# Altium integrated library Analog Devices Operational Amplifiers.IntLib: 2102 symbols (part 51 of 70)
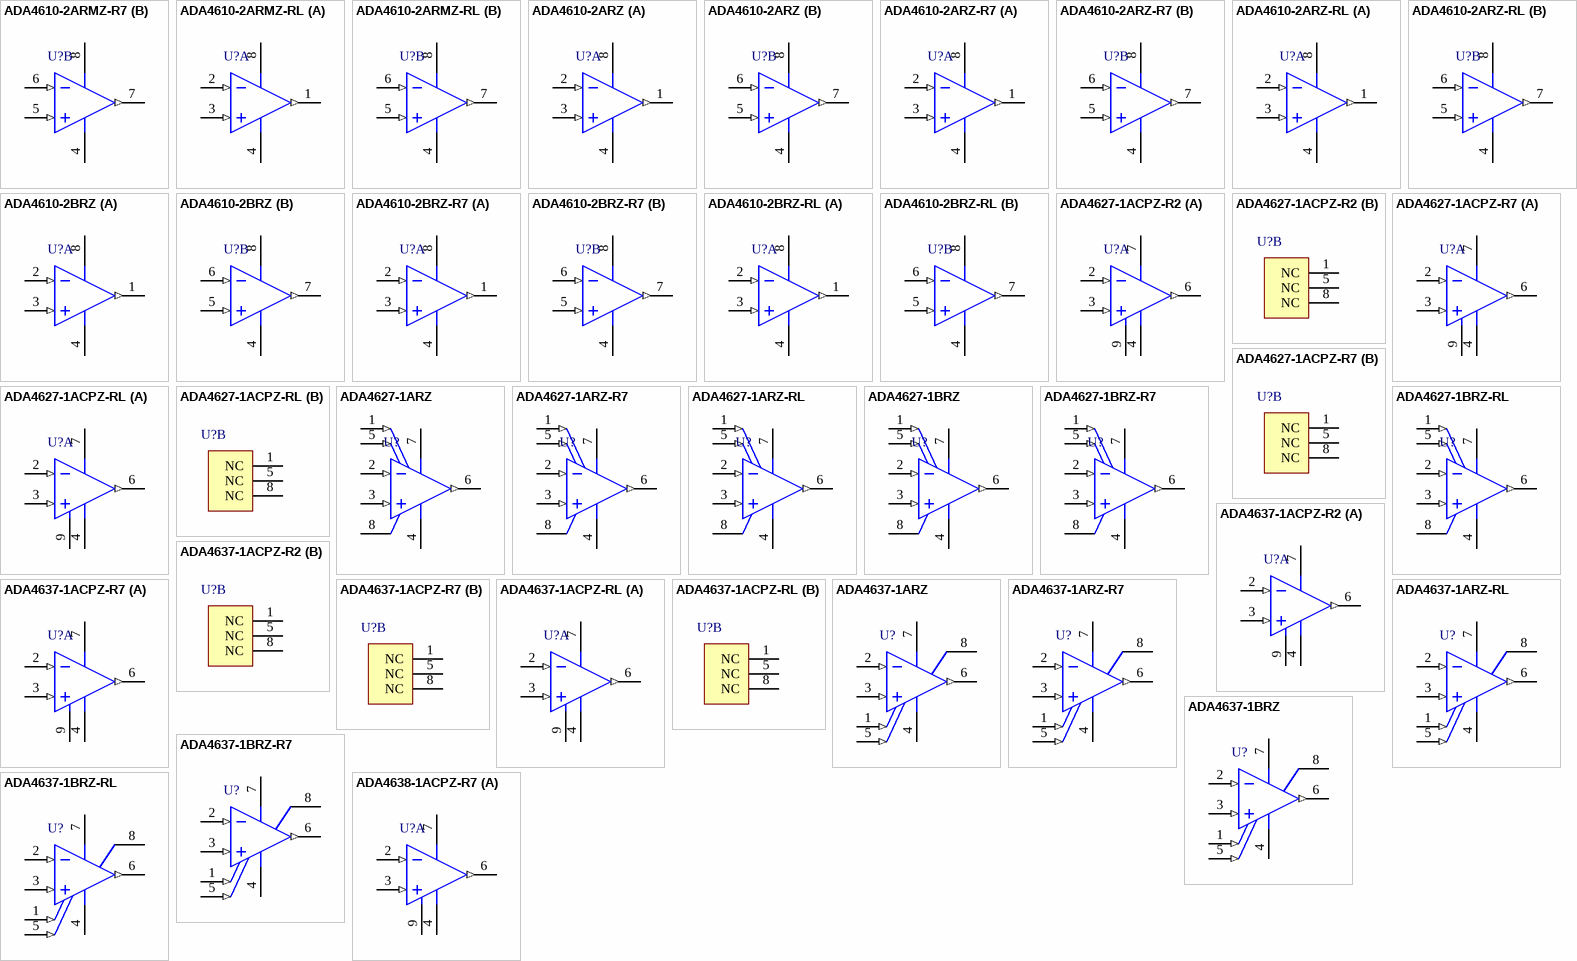
[diagram p164: symbols ADA4610-2ARMZ-R7 to ADA4638-1ACPZ-R7]

## ADA4627-1ACPZ-RL
designator U?
Single Channel Low Offset Voltage Operational Amplifier, 19 MHz BW, 40 V/us SR, Industrial, 8-pin QFN (CP-8-2), Reel; Generic Part Number: ADA4627-1; Manufacturer: Analog Devices; PartNumber: ADA4627-1ACPZ-RL; Amplifiers Per Package: 1; Input Bias Current: 1pA; Input Offset Voltage: 70uV; Iq/Amp: 7mA; Slew Rate: 40V/us; Small Signal Bandwidth: 19MHz; V Span Max: 30V; V Span Min: 10V; DatasheetVersion: Rev. D; PackageVersion: 061507-B; PackageReference: CP-8-2; PackageDescription: 8-Pin Lead Frame Chip Scale Package, Body 3 x 3 mm, Pitch 0.5 mm; Supplier 1: Digi-Key; Supplier Part Number 1: ADA4627-1ACPZ-RL-ND; Mounting Technology: Surface Mount; ComponentLink1Description: Manufacturer URL; ComponentLink1URL: http://www.analog.com/en/index.html; ComponentLink2Description: Datasheet; ComponentLink2URL: http://www.analog.com/static/imported-files/data_sheets/ADA4627-1_4637-1.pdf; ComponentLink3Description: Package Specification; ComponentLink3URL: http://www.analog.com/static/imported-files/packages/56953322593982CP_8_2.pdf; ComponentLink4Description: Reference Circuit; ComponentLink4URL: http://www.analog.com/en/all-operational-amplifiers-op-amps/operational-amplifiers-op-amps/ada4627-1/products/product.html#product-recommendations
footprint ADI-CP-8-2_N (QFN, 8-Leads, Body 3x3mm, Pitch 0.5mm, Thermal Pad 1.45X1.74mm, IPC Medium Density)
footprint ADI-CP-8-2_L (QFN, 8-Leads, Body 3x3mm, Pitch 0.5mm, Thermal Pad 1.45X1.74mm, IPC High Density)
footprint ADI-CP-8-2_M (QFN, 8-Leads, Body 3x3mm, Pitch 0.5mm, Thermal Pad 1.45X1.74mm, IPC Low Density)
part A pins: 2 -IN (in), 3 +IN (in), 4 -V (power), 6 OUT (out), 7 +V (power), 9 EP (power)
part B pins: 1 NC, 5 NC, 8 NC

## ADA4627-1ARZ
designator U?
Single Channel Low Offset Voltage Operational Amplifier, 19 MHz BW, 40 V/us SR, Industrial, 8-pin SOIC (R-8), Tube; Generic Part Number: ADA4627-1; Manufacturer: Analog Devices; PartNumber: ADA4627-1ARZ; Amplifiers Per Package: 1; Input Bias Current: 1pA; Input Offset Voltage: 70uV; Iq/Amp: 7mA; Slew Rate: 40V/us; Small Signal Bandwidth: 19MHz; V Span Max: 30V; V Span Min: 10V; DatasheetVersion: Rev. D; PackageVersion: 060506-A; PackageReference: R-8; PackageDescription: 8-Pin Standard Small Outline Package, Body 3.9 x 4.9 mm, Pitch 1.27 mm; Supplier 1: Digi-Key; Supplier Part Number 1: ADA4627-1ARZ-ND; Supplier 2: Farnell; Supplier Part Number 2: 1827378; Supplier 3: Newark; Supplier Part Number 3: 26R2398; Mounting Technology: Surface Mount; Code_JEDEC: MS-012-AA; ComponentLink1Description: Manufacturer URL; ComponentLink1URL: http://www.analog.com/en/index.html; ComponentLink2Description: Datasheet; ComponentLink2URL: http://www.analog.com/static/imported-files/data_sheets/ADA4627-1_4637-1.pdf; ComponentLink3Description: Package Specification; ComponentLink3URL: http://www.analog.com/static/imported-files/packages/PKG_PDF/SOIC_Narrow%20(R)/R_8.pdf; ComponentLink4Description: Reference Circuit; ComponentLink4URL: http://www.analog.com/en/all-operational-amplifiers-op-amps/operational-amplifiers-op-amps/ada4627-1/products/product.html#product-recommendations
footprint ADI-R-8_N (SOIC, 8-Leads, Body 4.9x3.9mm, Pitch 1.27mm, IPC Medium Density)
footprint ADI-R-8_L (SOIC, 8-Leads, Body 4.9x3.9mm, Pitch 1.27mm, IPC High Density)
footprint ADI-R-8_M (SOIC, 8-Leads, Body 4.9x3.9mm, Pitch 1.27mm, IPC Low Density)
pins: 1 NULL (in), 2 -IN (in), 3 +IN (in), 4 -V (power), 5 NULL (in), 6 OUT (out), 7 +V (power), 8 NC

## ADA4627-1ARZ-R7
designator U?
Single Channel Low Offset Voltage Operational Amplifier, 19 MHz BW, 40 V/us SR, Industrial, 8-pin SOIC (R-8), Reel; Generic Part Number: ADA4627-1; Manufacturer: Analog Devices; PartNumber: ADA4627-1ARZ-R7; Amplifiers Per Package: 1; Input Bias Current: 1pA; Input Offset Voltage: 70uV; Iq/Amp: 7mA; Slew Rate: 40V/us; Small Signal Bandwidth: 19MHz; V Span Max: 30V; V Span Min: 10V; DatasheetVersion: Rev. D; PackageVersion: 060506-A; PackageReference: R-8; PackageDescription: 8-Pin Standard Small Outline Package, Body 3.9 x 4.9 mm, Pitch 1.27 mm; Supplier 1: Digi-Key; Supplier Part Number 1: ADA4627-1ARZ-R7TR-ND; Supplier 2: Digi-Key; Supplier Part Number 2: ADA4627-1ARZ-R7CT-ND; Supplier 3: Digi-Key; Supplier Part Number 3: ADA4627-1ARZ-R7DKR-ND; Supplier 4: Newark; Supplier Part Number 4: 26R2400; Mounting Technology: Surface Mount; Code_JEDEC: MS-012-AA; ComponentLink1Description: Manufacturer URL; ComponentLink1URL: http://www.analog.com/en/index.html; ComponentLink2Description: Datasheet; ComponentLink2URL: http://www.analog.com/static/imported-files/data_sheets/ADA4627-1_4637-1.pdf; ComponentLink3Description: Package Specification; ComponentLink3URL: http://www.analog.com/static/imported-files/packages/PKG_PDF/SOIC_Narrow%20(R)/R_8.pdf; ComponentLink4Description: Reference Circuit; ComponentLink4URL: http://www.analog.com/en/all-operational-amplifiers-op-amps/operational-amplifiers-op-amps/ada4627-1/products/product.html#product-recommendations
footprint ADI-R-8_N (SOIC, 8-Leads, Body 4.9x3.9mm, Pitch 1.27mm, IPC Medium Density)
footprint ADI-R-8_L (SOIC, 8-Leads, Body 4.9x3.9mm, Pitch 1.27mm, IPC High Density)
footprint ADI-R-8_M (SOIC, 8-Leads, Body 4.9x3.9mm, Pitch 1.27mm, IPC Low Density)
pins: 1 NULL (in), 2 -IN (in), 3 +IN (in), 4 -V (power), 5 NULL (in), 6 OUT (out), 7 +V (power), 8 NC

## ADA4627-1ARZ-RL
designator U?
Single Channel Low Offset Voltage Operational Amplifier, 19 MHz BW, 40 V/us SR, Industrial, 8-pin SOIC (R-8), Reel; Generic Part Number: ADA4627-1; Manufacturer: Analog Devices; PartNumber: ADA4627-1ARZ-RL; Amplifiers Per Package: 1; Input Bias Current: 1pA; Input Offset Voltage: 70uV; Iq/Amp: 7mA; Slew Rate: 40V/us; Small Signal Bandwidth: 19MHz; V Span Max: 30V; V Span Min: 10V; DatasheetVersion: Rev. D; PackageVersion: 060506-A; PackageReference: R-8; PackageDescription: 8-Pin Standard Small Outline Package, Body 3.9 x 4.9 mm, Pitch 1.27 mm; Supplier 1: Digi-Key; Supplier Part Number 1: ADA4627-1ARZ-RL-ND; Supplier 2: Newark; Supplier Part Number 2: 26R2399; Mounting Technology: Surface Mount; Code_JEDEC: MS-012-AA; ComponentLink1Description: Manufacturer URL; ComponentLink1URL: http://www.analog.com/en/index.html; ComponentLink2Description: Datasheet; ComponentLink2URL: http://www.analog.com/static/imported-files/data_sheets/ADA4627-1_4637-1.pdf; ComponentLink3Description: Package Specification; ComponentLink3URL: http://www.analog.com/static/imported-files/packages/PKG_PDF/SOIC_Narrow%20(R)/R_8.pdf; ComponentLink4Description: Reference Circuit; ComponentLink4URL: http://www.analog.com/en/all-operational-amplifiers-op-amps/operational-amplifiers-op-amps/ada4627-1/products/product.html#product-recommendations
footprint ADI-R-8_N (SOIC, 8-Leads, Body 4.9x3.9mm, Pitch 1.27mm, IPC Medium Density)
footprint ADI-R-8_L (SOIC, 8-Leads, Body 4.9x3.9mm, Pitch 1.27mm, IPC High Density)
footprint ADI-R-8_M (SOIC, 8-Leads, Body 4.9x3.9mm, Pitch 1.27mm, IPC Low Density)
pins: 1 NULL (in), 2 -IN (in), 3 +IN (in), 4 -V (power), 5 NULL (in), 6 OUT (out), 7 +V (power), 8 NC

## ADA4627-1BRZ
designator U?
Single Channel Low Offset Voltage Operational Amplifier, 19 MHz BW, 40 V/us SR, Industrial, 8-pin SOIC (R-8), Tube; Generic Part Number: ADA4627-1; Manufacturer: Analog Devices; PartNumber: ADA4627-1BRZ; Amplifiers Per Package: 1; Input Bias Current: 1pA; Input Offset Voltage: 70uV; Iq/Amp: 7mA; Slew Rate: 40V/us; Small Signal Bandwidth: 19MHz; V Span Max: 30V; V Span Min: 10V; DatasheetVersion: Rev. D; PackageVersion: 060506-A; PackageReference: R-8; PackageDescription: 8-Pin Standard Small Outline Package, Body 3.9 x 4.9 mm, Pitch 1.27 mm; Supplier 1: Digi-Key; Supplier Part Number 1: ADA4627-1BRZ-ND; Supplier 2: Farnell; Supplier Part Number 2: 2067785; Supplier 3: Newark; Supplier Part Number 3: 73T8137; Supplier 4: Newark; Supplier Part Number 4: 26R2401; Mounting Technology: Surface Mount; Code_JEDEC: MS-012-AA; ComponentLink1Description: Manufacturer URL; ComponentLink1URL: http://www.analog.com/en/index.html; ComponentLink2Description: Datasheet; ComponentLink2URL: http://www.analog.com/static/imported-files/data_sheets/ADA4627-1_4637-1.pdf; ComponentLink3Description: Package Specification; ComponentLink3URL: http://www.analog.com/static/imported-files/packages/PKG_PDF/SOIC_Narrow%20(R)/R_8.pdf; ComponentLink4Description: Reference Circuit; ComponentLink4URL: http://www.analog.com/en/all-operational-amplifiers-op-amps/operational-amplifiers-op-amps/ada4627-1/products/product.html#product-recommendations
footprint ADI-R-8_N (SOIC, 8-Leads, Body 4.9x3.9mm, Pitch 1.27mm, IPC Medium Density)
footprint ADI-R-8_L (SOIC, 8-Leads, Body 4.9x3.9mm, Pitch 1.27mm, IPC High Density)
footprint ADI-R-8_M (SOIC, 8-Leads, Body 4.9x3.9mm, Pitch 1.27mm, IPC Low Density)
pins: 1 NULL (in), 2 -IN (in), 3 +IN (in), 4 -V (power), 5 NULL (in), 6 OUT (out), 7 +V (power), 8 NC

## ADA4627-1BRZ-R7
designator U?
Single Channel Low Offset Voltage Operational Amplifier, 19 MHz BW, 40 V/us SR, Industrial, 8-pin SOIC (R-8), Reel; Generic Part Number: ADA4627-1; Manufacturer: Analog Devices; PartNumber: ADA4627-1BRZ-R7; Amplifiers Per Package: 1; Input Bias Current: 1pA; Input Offset Voltage: 70uV; Iq/Amp: 7mA; Slew Rate: 40V/us; Small Signal Bandwidth: 19MHz; V Span Max: 30V; V Span Min: 10V; DatasheetVersion: Rev. D; PackageVersion: 060506-A; PackageReference: R-8; PackageDescription: 8-Pin Standard Small Outline Package, Body 3.9 x 4.9 mm, Pitch 1.27 mm; Supplier 1: Digi-Key; Supplier Part Number 1: ADA4627-1BRZ-R7-ND; Supplier 2: Newark; Supplier Part Number 2: 26R2403; Mounting Technology: Surface Mount; Code_JEDEC: MS-012-AA; ComponentLink1Description: Manufacturer URL; ComponentLink1URL: http://www.analog.com/en/index.html; ComponentLink2Description: Datasheet; ComponentLink2URL: http://www.analog.com/static/imported-files/data_sheets/ADA4627-1_4637-1.pdf; ComponentLink3Description: Package Specification; ComponentLink3URL: http://www.analog.com/static/imported-files/packages/PKG_PDF/SOIC_Narrow%20(R)/R_8.pdf; ComponentLink4Description: Reference Circuit; ComponentLink4URL: http://www.analog.com/en/all-operational-amplifiers-op-amps/operational-amplifiers-op-amps/ada4627-1/products/product.html#product-recommendations
footprint ADI-R-8_N (SOIC, 8-Leads, Body 4.9x3.9mm, Pitch 1.27mm, IPC Medium Density)
footprint ADI-R-8_L (SOIC, 8-Leads, Body 4.9x3.9mm, Pitch 1.27mm, IPC High Density)
footprint ADI-R-8_M (SOIC, 8-Leads, Body 4.9x3.9mm, Pitch 1.27mm, IPC Low Density)
pins: 1 NULL (in), 2 -IN (in), 3 +IN (in), 4 -V (power), 5 NULL (in), 6 OUT (out), 7 +V (power), 8 NC

## ADA4627-1BRZ-RL
designator U?
Single Channel Low Offset Voltage Operational Amplifier, 19 MHz BW, 40 V/us SR, Industrial, 8-pin SOIC (R-8), Reel; Generic Part Number: ADA4627-1; Manufacturer: Analog Devices; PartNumber: ADA4627-1BRZ-RL; Amplifiers Per Package: 1; Input Bias Current: 1pA; Input Offset Voltage: 70uV; Iq/Amp: 7mA; Slew Rate: 40V/us; Small Signal Bandwidth: 19MHz; V Span Max: 30V; V Span Min: 10V; DatasheetVersion: Rev. D; PackageVersion: 060506-A; PackageReference: R-8; PackageDescription: 8-Pin Standard Small Outline Package, Body 3.9 x 4.9 mm, Pitch 1.27 mm; Supplier 1: Digi-Key; Supplier Part Number 1: ADA4627-1BRZ-RL-ND; Supplier 2: Newark; Supplier Part Number 2: 26R2402; Mounting Technology: Surface Mount; Code_JEDEC: MS-012-AA; ComponentLink1Description: Manufacturer URL; ComponentLink1URL: http://www.analog.com/en/index.html; ComponentLink2Description: Datasheet; ComponentLink2URL: http://www.analog.com/static/imported-files/data_sheets/ADA4627-1_4637-1.pdf; ComponentLink3Description: Package Specification; ComponentLink3URL: http://www.analog.com/static/imported-files/packages/PKG_PDF/SOIC_Narrow%20(R)/R_8.pdf; ComponentLink4Description: Reference Circuit; ComponentLink4URL: http://www.analog.com/en/all-operational-amplifiers-op-amps/operational-amplifiers-op-amps/ada4627-1/products/product.html#product-recommendations
footprint ADI-R-8_N (SOIC, 8-Leads, Body 4.9x3.9mm, Pitch 1.27mm, IPC Medium Density)
footprint ADI-R-8_L (SOIC, 8-Leads, Body 4.9x3.9mm, Pitch 1.27mm, IPC High Density)
footprint ADI-R-8_M (SOIC, 8-Leads, Body 4.9x3.9mm, Pitch 1.27mm, IPC Low Density)
pins: 1 NULL (in), 2 -IN (in), 3 +IN (in), 4 -V (power), 5 NULL (in), 6 OUT (out), 7 +V (power), 8 NC

## ADA4637-1ACPZ-R2
designator U?
Single Channel Low Offset Voltage Operational Amplifier, 79 MHz BW, 170 V/us SR, Industrial, 8-pin QFN (CP-8-2), Reel; Generic Part Number: ADA4637-1; Manufacturer: Analog Devices; PartNumber: ADA4637-1ACPZ-R2; Input Bias Current: 1pA; Input Offset Voltage: 120uV; DatasheetVersion: Rev. D; PackageVersion: 061507-B; PackageReference: CP-8-2; PackageDescription: 8-Pin Lead Frame Chip Scale Package, Body 3 x 3 mm, Pitch 0.5 mm; Supplier 1: Digi-Key; Supplier Part Number 1: ADA4637-1ACPZ-R2TR-ND; Supplier 2: Digi-Key; Supplier Part Number 2: ADA4637-1ACPZ-R2CT-ND; Supplier 3: Digi-Key; Supplier Part Number 3: ADA4637-1ACPZ-R2DKR-ND; Supplier 4: Newark; Supplier Part Number 4: 18T1945; Packing: Reel; Slew Rate: 170V/us; Mounting Technology: Surface Mount; ComponentLink1Description: Manufacturer URL; ComponentLink1URL: http://www.analog.com/en/index.html; ComponentLink2Description: Datasheet; ComponentLink2URL: http://www.analog.com/static/imported-files/data_sheets/ADA4627-1_4637-1.pdf; ComponentLink3Description: Package Specification; ComponentLink3URL: http://www.analog.com/static/imported-files/packages/56953322593982CP_8_2.pdf
footprint ADI-CP-8-2_N (QFN, 8-Leads, Body 3x3mm, Pitch 0.5mm, Thermal Pad 1.45X1.74mm, IPC Medium Density)
footprint ADI-CP-8-2_L (QFN, 8-Leads, Body 3x3mm, Pitch 0.5mm, Thermal Pad 1.45X1.74mm, IPC High Density)
footprint ADI-CP-8-2_M (QFN, 8-Leads, Body 3x3mm, Pitch 0.5mm, Thermal Pad 1.45X1.74mm, IPC Low Density)
part A pins: 2 -IN (in), 3 +IN (in), 4 -V (power), 6 OUT (out), 7 +V (power), 9 EP (power)
part B pins: 1 NC, 5 NC, 8 NC

## ADA4637-1ACPZ-R7
designator U?
Single Channel Low Offset Voltage Operational Amplifier, 79 MHz BW, 170 V/us SR, Industrial, 8-pin QFN (CP-8-2), Reel; Generic Part Number: ADA4637-1; Manufacturer: Analog Devices; PartNumber: ADA4637-1ACPZ-R7; Input Bias Current: 1pA; Input Offset Voltage: 120uV; DatasheetVersion: Rev. D; PackageVersion: 061507-B; PackageReference: CP-8-2; PackageDescription: 8-Pin Lead Frame Chip Scale Package, Body 3 x 3 mm, Pitch 0.5 mm; Supplier 1: Digi-Key; Supplier Part Number 1: ADA4637-1ACPZ-R7-ND; Packing: Reel; Slew Rate: 170V/us; Mounting Technology: Surface Mount; ComponentLink1Description: Manufacturer URL; ComponentLink1URL: http://www.analog.com/en/index.html; ComponentLink2Description: Datasheet; ComponentLink2URL: http://www.analog.com/static/imported-files/data_sheets/ADA4627-1_4637-1.pdf; ComponentLink3Description: Package Specification; ComponentLink3URL: http://www.analog.com/static/imported-files/packages/56953322593982CP_8_2.pdf
footprint ADI-CP-8-2_N (QFN, 8-Leads, Body 3x3mm, Pitch 0.5mm, Thermal Pad 1.45X1.74mm, IPC Medium Density)
footprint ADI-CP-8-2_L (QFN, 8-Leads, Body 3x3mm, Pitch 0.5mm, Thermal Pad 1.45X1.74mm, IPC High Density)
footprint ADI-CP-8-2_M (QFN, 8-Leads, Body 3x3mm, Pitch 0.5mm, Thermal Pad 1.45X1.74mm, IPC Low Density)
part A pins: 2 -IN (in), 3 +IN (in), 4 -V (power), 6 OUT (out), 7 +V (power), 9 EP (power)
part B pins: 1 NC, 5 NC, 8 NC

## ADA4637-1ACPZ-RL
designator U?
Single Channel Low Offset Voltage Operational Amplifier, 79 MHz BW, 170 V/us SR, Industrial, 8-pin QFN (CP-8-2), Reel; Generic Part Number: ADA4637-1; Manufacturer: Analog Devices; PartNumber: ADA4637-1ACPZ-RL; Input Bias Current: 1pA; Input Offset Voltage: 120uV; DatasheetVersion: Rev. D; PackageVersion: 061507-B; PackageReference: CP-8-2; PackageDescription: 8-Pin Lead Frame Chip Scale Package, Body 3 x 3 mm, Pitch 0.5 mm; Supplier 1: Digi-Key; Supplier Part Number 1: ADA4637-1ACPZ-RL-ND; Packing: Reel; Slew Rate: 170V/us; Mounting Technology: Surface Mount; ComponentLink1Description: Manufacturer URL; ComponentLink1URL: http://www.analog.com/en/index.html; ComponentLink2Description: Datasheet; ComponentLink2URL: http://www.analog.com/static/imported-files/data_sheets/ADA4627-1_4637-1.pdf; ComponentLink3Description: Package Specification; ComponentLink3URL: http://www.analog.com/static/imported-files/packages/56953322593982CP_8_2.pdf
footprint ADI-CP-8-2_N (QFN, 8-Leads, Body 3x3mm, Pitch 0.5mm, Thermal Pad 1.45X1.74mm, IPC Medium Density)
footprint ADI-CP-8-2_L (QFN, 8-Leads, Body 3x3mm, Pitch 0.5mm, Thermal Pad 1.45X1.74mm, IPC High Density)
footprint ADI-CP-8-2_M (QFN, 8-Leads, Body 3x3mm, Pitch 0.5mm, Thermal Pad 1.45X1.74mm, IPC Low Density)
part A pins: 2 -IN (in), 3 +IN (in), 4 -V (power), 6 OUT (out), 7 +V (power), 9 EP (power)
part B pins: 1 NC, 5 NC, 8 NC

## ADA4637-1ARZ
designator U?
Single Channel Low Offset Voltage Operational Amplifier, 79 MHz BW, 170 V/us SR, Industrial, 8-pin SOIC (R-8), Tube; Generic Part Number: ADA4637-1; Manufacturer: Analog Devices; PartNumber: ADA4637-1ARZ; Input Bias Current: 1pA; Input Offset Voltage: 120uV; DatasheetVersion: Rev. D; PackageVersion: 060506-A; PackageReference: R-8; PackageDescription: 8-Pin Standard Small Outline Package, Body 3.9 x 4.9 mm, Pitch 1.27 mm; Supplier 1: Digi-Key; Supplier Part Number 1: ADA4637-1ARZ-ND; Supplier 2: Farnell; Supplier Part Number 2: 2067786; Supplier 3: Newark; Supplier Part Number 3: 73T8138; Supplier 4: Newark; Supplier Part Number 4: 85R6298; Packing: Tube; Slew Rate: 170V/us; Mounting Technology: Surface Mount; Code_JEDEC: MS-012-AA; ComponentLink1Description: Manufacturer URL; ComponentLink1URL: http://www.analog.com/en/index.html; ComponentLink2Description: Datasheet; ComponentLink2URL: http://www.analog.com/static/imported-files/data_sheets/ADA4627-1_4637-1.pdf; ComponentLink3Description: Package Specification; ComponentLink3URL: http://www.analog.com/static/imported-files/packages/PKG_PDF/SOIC_Narrow%20(R)/R_8.pdf
footprint ADI-R-8_N (SOIC, 8-Leads, Body 4.9x3.9mm, Pitch 1.27mm, IPC Medium Density)
footprint ADI-R-8_L (SOIC, 8-Leads, Body 4.9x3.9mm, Pitch 1.27mm, IPC High Density)
footprint ADI-R-8_M (SOIC, 8-Leads, Body 4.9x3.9mm, Pitch 1.27mm, IPC Low Density)
pins: 1 NULL (in), 2 -IN (in), 3 +IN (in), 4 -V (power), 5 NULL (in), 6 OUT (out), 7 +V (power), 8 NC

## ADA4637-1ARZ-R7
designator U?
Single Channel Low Offset Voltage Operational Amplifier, 79 MHz BW, 170 V/us SR, Industrial, 8-pin SOIC (R-8), Reel; Generic Part Number: ADA4637-1; Manufacturer: Analog Devices; PartNumber: ADA4637-1ARZ-R7; Input Bias Current: 1pA; Input Offset Voltage: 120uV; DatasheetVersion: Rev. D; PackageVersion: 060506-A; PackageReference: R-8; PackageDescription: 8-Pin Standard Small Outline Package, Body 3.9 x 4.9 mm, Pitch 1.27 mm; Supplier 1: Digi-Key; Supplier Part Number 1: ADA4637-1ARZ-R7-ND; Supplier 2: Newark; Supplier Part Number 2: 85R6300; Packing: Reel; Slew Rate: 170V/us; Mounting Technology: Surface Mount; Code_JEDEC: MS-012-AA; ComponentLink1Description: Manufacturer URL; ComponentLink1URL: http://www.analog.com/en/index.html; ComponentLink2Description: Datasheet; ComponentLink2URL: http://www.analog.com/static/imported-files/data_sheets/ADA4627-1_4637-1.pdf; ComponentLink3Description: Package Specification; ComponentLink3URL: http://www.analog.com/static/imported-files/packages/PKG_PDF/SOIC_Narrow%20(R)/R_8.pdf
footprint ADI-R-8_N (SOIC, 8-Leads, Body 4.9x3.9mm, Pitch 1.27mm, IPC Medium Density)
footprint ADI-R-8_L (SOIC, 8-Leads, Body 4.9x3.9mm, Pitch 1.27mm, IPC High Density)
footprint ADI-R-8_M (SOIC, 8-Leads, Body 4.9x3.9mm, Pitch 1.27mm, IPC Low Density)
pins: 1 NULL (in), 2 -IN (in), 3 +IN (in), 4 -V (power), 5 NULL (in), 6 OUT (out), 7 +V (power), 8 NC

## ADA4637-1ARZ-RL
designator U?
Single Channel Low Offset Voltage Operational Amplifier, 79 MHz BW, 170 V/us SR, Industrial, 8-pin SOIC (R-8), Reel; Generic Part Number: ADA4637-1; Manufacturer: Analog Devices; PartNumber: ADA4637-1ARZ-RL; Input Bias Current: 1pA; Input Offset Voltage: 120uV; DatasheetVersion: Rev. D; PackageVersion: 060506-A; PackageReference: R-8; PackageDescription: 8-Pin Standard Small Outline Package, Body 3.9 x 4.9 mm, Pitch 1.27 mm; Supplier 1: Digi-Key; Supplier Part Number 1: ADA4637-1ARZ-RL-ND; Supplier 2: Newark; Supplier Part Number 2: 85R6299; Packing: Reel; Slew Rate: 170V/us; Mounting Technology: Surface Mount; Code_JEDEC: MS-012-AA; ComponentLink1Description: Manufacturer URL; ComponentLink1URL: http://www.analog.com/en/index.html; ComponentLink2Description: Datasheet; ComponentLink2URL: http://www.analog.com/static/imported-files/data_sheets/ADA4627-1_4637-1.pdf; ComponentLink3Description: Package Specification; ComponentLink3URL: http://www.analog.com/static/imported-files/packages/PKG_PDF/SOIC_Narrow%20(R)/R_8.pdf
footprint ADI-R-8_N (SOIC, 8-Leads, Body 4.9x3.9mm, Pitch 1.27mm, IPC Medium Density)
footprint ADI-R-8_L (SOIC, 8-Leads, Body 4.9x3.9mm, Pitch 1.27mm, IPC High Density)
footprint ADI-R-8_M (SOIC, 8-Leads, Body 4.9x3.9mm, Pitch 1.27mm, IPC Low Density)
pins: 1 NULL (in), 2 -IN (in), 3 +IN (in), 4 -V (power), 5 NULL (in), 6 OUT (out), 7 +V (power), 8 NC

## ADA4637-1BRZ
designator U?
Single Channel Low Offset Voltage Operational Amplifier, 79 MHz BW, 170 V/us SR, Industrial, 8-pin SOIC (R-8), Tube; Generic Part Number: ADA4637-1; Manufacturer: Analog Devices; PartNumber: ADA4637-1BRZ; Input Bias Current: 1pA; Input Offset Voltage: 70uV; DatasheetVersion: Rev. D; PackageVersion: 060506-A; PackageReference: R-8; PackageDescription: 8-Pin Standard Small Outline Package, Body 3.9 x 4.9 mm, Pitch 1.27 mm; Supplier 1: Digi-Key; Supplier Part Number 1: ADA4637-1BRZ-ND; Supplier 2: Newark; Supplier Part Number 2: 85R6301; Packing: Tube; Slew Rate: 170V/us; Mounting Technology: Surface Mount; Code_JEDEC: MS-012-AA; ComponentLink1Description: Manufacturer URL; ComponentLink1URL: http://www.analog.com/en/index.html; ComponentLink2Description: Datasheet; ComponentLink2URL: http://www.analog.com/static/imported-files/data_sheets/ADA4627-1_4637-1.pdf; ComponentLink3Description: Package Specification; ComponentLink3URL: http://www.analog.com/static/imported-files/packages/PKG_PDF/SOIC_Narrow%20(R)/R_8.pdf
footprint ADI-R-8_N (SOIC, 8-Leads, Body 4.9x3.9mm, Pitch 1.27mm, IPC Medium Density)
footprint ADI-R-8_L (SOIC, 8-Leads, Body 4.9x3.9mm, Pitch 1.27mm, IPC High Density)
footprint ADI-R-8_M (SOIC, 8-Leads, Body 4.9x3.9mm, Pitch 1.27mm, IPC Low Density)
pins: 1 NULL (in), 2 -IN (in), 3 +IN (in), 4 -V (power), 5 NULL (in), 6 OUT (out), 7 +V (power), 8 NC

## ADA4637-1BRZ-R7
designator U?
Single Channel Low Offset Voltage Operational Amplifier, 79 MHz BW, 170 V/us SR, Industrial, 8-pin SOIC (R-8), Reel; Generic Part Number: ADA4637-1; Manufacturer: Analog Devices; PartNumber: ADA4637-1BRZ-R7; Input Bias Current: 1pA; Input Offset Voltage: 70uV; DatasheetVersion: Rev. D; PackageVersion: 060506-A; PackageReference: R-8; PackageDescription: 8-Pin Standard Small Outline Package, Body 3.9 x 4.9 mm, Pitch 1.27 mm; Supplier 1: Digi-Key; Supplier Part Number 1: ADA4637-1BRZ-R7-ND; Supplier 2: Newark; Supplier Part Number 2: 85R6303; Packing: Reel; Slew Rate: 170V/us; Mounting Technology: Surface Mount; Code_JEDEC: MS-012-AA; ComponentLink1Description: Manufacturer URL; ComponentLink1URL: http://www.analog.com/en/index.html; ComponentLink2Description: Datasheet; ComponentLink2URL: http://www.analog.com/static/imported-files/data_sheets/ADA4627-1_4637-1.pdf; ComponentLink3Description: Package Specification; ComponentLink3URL: http://www.analog.com/static/imported-files/packages/PKG_PDF/SOIC_Narrow%20(R)/R_8.pdf
footprint ADI-R-8_N (SOIC, 8-Leads, Body 4.9x3.9mm, Pitch 1.27mm, IPC Medium Density)
footprint ADI-R-8_L (SOIC, 8-Leads, Body 4.9x3.9mm, Pitch 1.27mm, IPC High Density)
footprint ADI-R-8_M (SOIC, 8-Leads, Body 4.9x3.9mm, Pitch 1.27mm, IPC Low Density)
pins: 1 NULL (in), 2 -IN (in), 3 +IN (in), 4 -V (power), 5 NULL (in), 6 OUT (out), 7 +V (power), 8 NC

## ADA4637-1BRZ-RL
designator U?
Single Channel Low Offset Voltage Operational Amplifier, 79 MHz BW, 170 V/us SR, Industrial, 8-pin SOIC (R-8), Reel; Generic Part Number: ADA4637-1; Manufacturer: Analog Devices; PartNumber: ADA4637-1BRZ-RL; Input Bias Current: 1pA; Input Offset Voltage: 70uV; DatasheetVersion: Rev. D; PackageVersion: 060506-A; PackageReference: R-8; PackageDescription: 8-Pin Standard Small Outline Package, Body 3.9 x 4.9 mm, Pitch 1.27 mm; Supplier 1: Digi-Key; Supplier Part Number 1: ADA4637-1BRZ-RL-ND; Supplier 2: Newark; Supplier Part Number 2: 85R6302; Packing: Reel; Slew Rate: 170V/us; Mounting Technology: Surface Mount; Code_JEDEC: MS-012-AA; ComponentLink1Description: Manufacturer URL; ComponentLink1URL: http://www.analog.com/en/index.html; ComponentLink2Description: Datasheet; ComponentLink2URL: http://www.analog.com/static/imported-files/data_sheets/ADA4627-1_4637-1.pdf; ComponentLink3Description: Package Specification; ComponentLink3URL: http://www.analog.com/static/imported-files/packages/PKG_PDF/SOIC_Narrow%20(R)/R_8.pdf
footprint ADI-R-8_N (SOIC, 8-Leads, Body 4.9x3.9mm, Pitch 1.27mm, IPC Medium Density)
footprint ADI-R-8_L (SOIC, 8-Leads, Body 4.9x3.9mm, Pitch 1.27mm, IPC High Density)
footprint ADI-R-8_M (SOIC, 8-Leads, Body 4.9x3.9mm, Pitch 1.27mm, IPC Low Density)
pins: 1 NULL (in), 2 -IN (in), 3 +IN (in), 4 -V (power), 5 NULL (in), 6 OUT (out), 7 +V (power), 8 NC

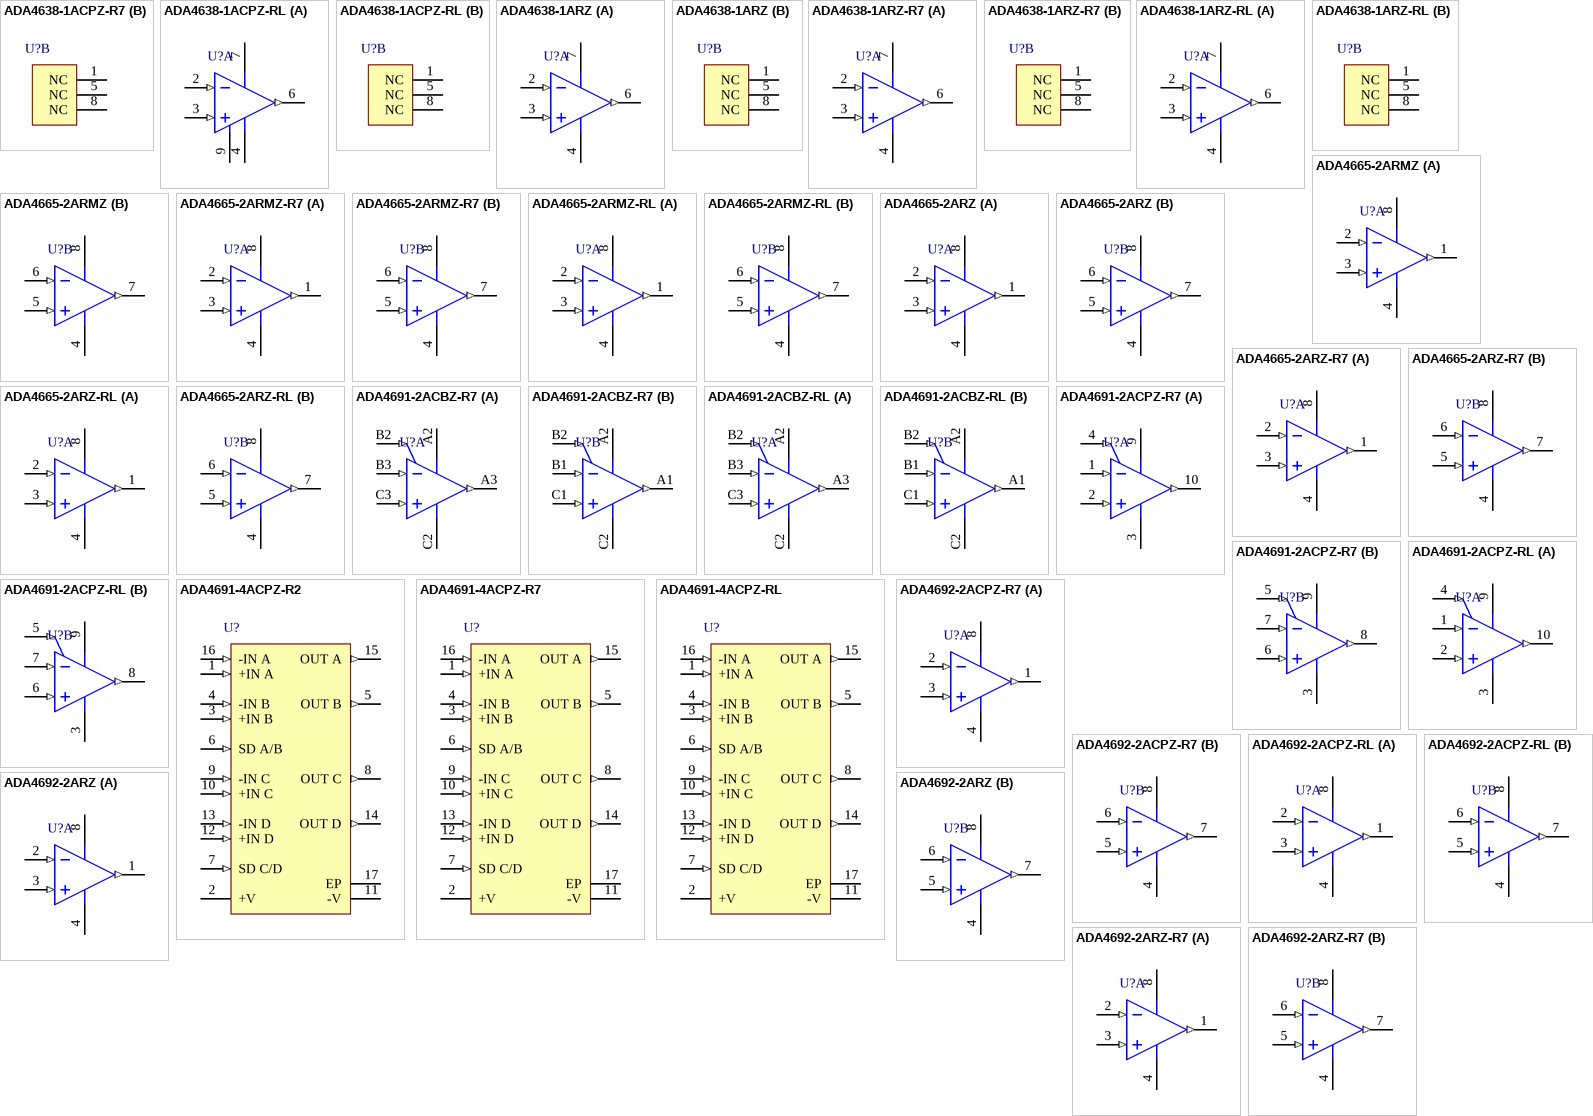
[diagram p81: symbols ADA4638-1ACPZ-R7 to ADA4692-2ARZ-R7]

## ADA4638-1ACPZ-R7
designator U?
Single Channel Low Supply Current Operational Amplifier, 2.5 MHz BW, 1.5 V/us SR, Industrial, 8-pin SON (CP-8-11), Reel; Generic Part Number: ADA4638-1; Manufacturer: Analog Devices; PartNumber: ADA4638-1ACPZ-R7; Amplifiers Per Package: 1; Input Bias Current: 45pA; Input Offset Voltage: 500nV; Iq/Amp: 850uA; Small Signal Bandwidth: 2.5MHz; V Span Max: 30V; V Span Min: 4.5V; DatasheetVersion: Rev. 0; PackageVersion: 01-24-2011-B; PackageReference: CP-8-11; PackageDescription: 8-Pin Lead Frame Chip Scale Package, Body 3 x 3 mm, Pitch 0.5 mm; Supplier 1: Digi-Key; Supplier Part Number 1: ADA4638-1ACPZ-R7TR-ND; Supplier 2: Digi-Key; Supplier Part Number 2: ADA4638-1ACPZ-R7CT-ND; Supplier 3: Digi-Key; Supplier Part Number 3: ADA4638-1ACPZ-R7DKR-ND; Supplier 4: Farnell; Supplier Part Number 4: 2070705; Supplier 5: Newark; Supplier Part Number 5: 72T3475; Supplier 6: Newark; Supplier Part Number 6: 82T5453; Packing: Reel; Slew Rate: 1.5V/us; Mounting Technology: Surface Mount; Code_JEDEC: MO-229-WEED; ComponentLink1Description: Manufacturer URL; ComponentLink1URL: http://www.analog.com/en/index.html; ComponentLink2Description: Datasheet; ComponentLink2URL: http://www.analog.com/static/imported-files/data_sheets/ADA4638-1.pdf; ComponentLink3Description: Package Specification; ComponentLink3URL: http://www.analog.com/static/imported-files/packages/PKG_PDF/LFCSP(CP)/CP_8_11.pdf
footprint ADI-CP-8-11_N (SON, 8-Leads, Body 3x3mm, Pitch 0.5mm, Thermal Pad 2.34 x 1.60mm, IPC Medium Density)
footprint ADI-CP-8-11_L (SON, 8-Leads, Body 3x3mm, Pitch 0.5mm, Thermal Pad 2.34 x 1.60mm, IPC High Density)
footprint ADI-CP-8-11_M (SON, 8-Leads, Body 3x3mm, Pitch 0.5mm, Thermal Pad 2.34 x 1.60mm, IPC Low Density)
part A pins: 2 -IN (in), 3 +IN (in), 4 -V (power), 6 OUT (out), 7 +V (power), 9 EP (power)
part B pins: 1 NC, 5 NC, 8 NC

## ADA4638-1ACPZ-RL
designator U?
Single Channel Low Supply Current Operational Amplifier, 2.5 MHz BW, 1.5 V/us SR, Industrial, 8-pin SON (CP-8-11), Reel; Generic Part Number: ADA4638-1; Manufacturer: Analog Devices; PartNumber: ADA4638-1ACPZ-RL; Amplifiers Per Package: 1; Input Bias Current: 45pA; Input Offset Voltage: 500nV; Iq/Amp: 850uA; Small Signal Bandwidth: 2.5MHz; V Span Max: 30V; V Span Min: 4.5V; DatasheetVersion: Rev. 0; PackageVersion: 01-24-2011-B; PackageReference: CP-8-11; PackageDescription: 8-Pin Lead Frame Chip Scale Package, Body 3 x 3 mm, Pitch 0.5 mm; Supplier 1: Digi-Key; Supplier Part Number 1: ADA4638-1ACPZ-RL-ND; Packing: Reel; Slew Rate: 1.5V/us; Mounting Technology: Surface Mount; Code_JEDEC: MO-229-WEED; ComponentLink1Description: Manufacturer URL; ComponentLink1URL: http://www.analog.com/en/index.html; ComponentLink2Description: Datasheet; ComponentLink2URL: http://www.analog.com/static/imported-files/data_sheets/ADA4638-1.pdf; ComponentLink3Description: Package Specification; ComponentLink3URL: http://www.analog.com/static/imported-files/packages/PKG_PDF/LFCSP(CP)/CP_8_11.pdf
footprint ADI-CP-8-11_N (SON, 8-Leads, Body 3x3mm, Pitch 0.5mm, Thermal Pad 2.34 x 1.60mm, IPC Medium Density)
footprint ADI-CP-8-11_L (SON, 8-Leads, Body 3x3mm, Pitch 0.5mm, Thermal Pad 2.34 x 1.60mm, IPC High Density)
footprint ADI-CP-8-11_M (SON, 8-Leads, Body 3x3mm, Pitch 0.5mm, Thermal Pad 2.34 x 1.60mm, IPC Low Density)
part A pins: 2 -IN (in), 3 +IN (in), 4 -V (power), 6 OUT (out), 7 +V (power), 9 EP (power)
part B pins: 1 NC, 5 NC, 8 NC

## ADA4638-1ARZ
designator U?
Single Channel Low Supply Current Operational Amplifier, 2.5 MHz BW, 1.5 V/us SR, Industrial, 8-pin SOIC (R-8), Tube; Generic Part Number: ADA4638-1; Manufacturer: Analog Devices; PartNumber: ADA4638-1ARZ; Amplifiers Per Package: 1; Input Bias Current: 45pA; Input Offset Voltage: 500nV; Iq/Amp: 850uA; Small Signal Bandwidth: 2.5MHz; V Span Max: 30V; V Span Min: 4.5V; DatasheetVersion: Rev. 0; PackageVersion: 060506-A; PackageReference: R-8; PackageDescription: 8-Pin Standard Small Outline Package, Body 3.9 x 4.9 mm, Pitch 1.27 mm; Supplier 1: Digi-Key; Supplier Part Number 1: ADA4638-1ARZ-ND; Supplier 2: Farnell; Supplier Part Number 2: 2070706; Supplier 3: Newark; Supplier Part Number 3: 72T3476; Packing: Tube; Slew Rate: 1.5V/us; Mounting Technology: Surface Mount; Code_JEDEC: MS-012-AA; ComponentLink1Description: Manufacturer URL; ComponentLink1URL: http://www.analog.com/en/index.html; ComponentLink2Description: Datasheet; ComponentLink2URL: http://www.analog.com/static/imported-files/data_sheets/ADA4638-1.pdf; ComponentLink3Description: Package Specification; ComponentLink3URL: http://www.analog.com/static/imported-files/packages/PKG_PDF/SOIC_Narrow%20(R)/R_8.pdf
footprint ADI-R-8_N (SOIC, 8-Leads, Body 4.9x3.9mm, Pitch 1.27mm, IPC Medium Density)
footprint ADI-R-8_L (SOIC, 8-Leads, Body 4.9x3.9mm, Pitch 1.27mm, IPC High Density)
footprint ADI-R-8_M (SOIC, 8-Leads, Body 4.9x3.9mm, Pitch 1.27mm, IPC Low Density)
part A pins: 2 -IN (in), 3 +IN (in), 4 -V (power), 6 OUT (out), 7 +V (power)
part B pins: 1 NC, 5 NC, 8 NC

## ADA4638-1ARZ-R7
designator U?
Single Channel Low Supply Current Operational Amplifier, 2.5 MHz BW, 1.5 V/us SR, Industrial, 8-pin SOIC (R-8), Reel; Generic Part Number: ADA4638-1; Manufacturer: Analog Devices; PartNumber: ADA4638-1ARZ-R7; Amplifiers Per Package: 1; Input Bias Current: 45pA; Input Offset Voltage: 500nV; Iq/Amp: 850uA; Small Signal Bandwidth: 2.5MHz; V Span Max: 30V; V Span Min: 4.5V; DatasheetVersion: Rev. 0; PackageVersion: 060506-A; PackageReference: R-8; PackageDescription: 8-Pin Standard Small Outline Package, Body 3.9 x 4.9 mm, Pitch 1.27 mm; Supplier 1: Digi-Key; Supplier Part Number 1: ADA4638-1ARZ-R7-ND; Supplier 2: Newark; Supplier Part Number 2: 72T3478; Packing: Reel; Slew Rate: 1.5V/us; Mounting Technology: Surface Mount; Code_JEDEC: MS-012-AA; ComponentLink1Description: Manufacturer URL; ComponentLink1URL: http://www.analog.com/en/index.html; ComponentLink2Description: Datasheet; ComponentLink2URL: http://www.analog.com/static/imported-files/data_sheets/ADA4638-1.pdf; ComponentLink3Description: Package Specification; ComponentLink3URL: http://www.analog.com/static/imported-files/packages/PKG_PDF/SOIC_Narrow%20(R)/R_8.pdf
footprint ADI-R-8_N (SOIC, 8-Leads, Body 4.9x3.9mm, Pitch 1.27mm, IPC Medium Density)
footprint ADI-R-8_L (SOIC, 8-Leads, Body 4.9x3.9mm, Pitch 1.27mm, IPC High Density)
footprint ADI-R-8_M (SOIC, 8-Leads, Body 4.9x3.9mm, Pitch 1.27mm, IPC Low Density)
part A pins: 2 -IN (in), 3 +IN (in), 4 -V (power), 6 OUT (out), 7 +V (power)
part B pins: 1 NC, 5 NC, 8 NC

## ADA4638-1ARZ-RL
designator U?
Single Channel Low Supply Current Operational Amplifier, 2.5 MHz BW, 1.5 V/us SR, Industrial, 8-pin SOIC (R-8), Reel; Generic Part Number: ADA4638-1; Manufacturer: Analog Devices; PartNumber: ADA4638-1ARZ-RL; Amplifiers Per Package: 1; Input Bias Current: 45pA; Input Offset Voltage: 500nV; Iq/Amp: 850uA; Small Signal Bandwidth: 2.5MHz; V Span Max: 30V; V Span Min: 4.5V; DatasheetVersion: Rev. 0; PackageVersion: 060506-A; PackageReference: R-8; PackageDescription: 8-Pin Standard Small Outline Package, Body 3.9 x 4.9 mm, Pitch 1.27 mm; Supplier 1: Digi-Key; Supplier Part Number 1: ADA4638-1ARZ-RL-ND; Packing: Reel; Slew Rate: 1.5V/us; Mounting Technology: Surface Mount; Code_JEDEC: MS-012-AA; ComponentLink1Description: Manufacturer URL; ComponentLink1URL: http://www.analog.com/en/index.html; ComponentLink2Description: Datasheet; ComponentLink2URL: http://www.analog.com/static/imported-files/data_sheets/ADA4638-1.pdf; ComponentLink3Description: Package Specification; ComponentLink3URL: http://www.analog.com/static/imported-files/packages/PKG_PDF/SOIC_Narrow%20(R)/R_8.pdf
footprint ADI-R-8_N (SOIC, 8-Leads, Body 4.9x3.9mm, Pitch 1.27mm, IPC Medium Density)
footprint ADI-R-8_L (SOIC, 8-Leads, Body 4.9x3.9mm, Pitch 1.27mm, IPC High Density)
footprint ADI-R-8_M (SOIC, 8-Leads, Body 4.9x3.9mm, Pitch 1.27mm, IPC Low Density)
part A pins: 2 -IN (in), 3 +IN (in), 4 -V (power), 6 OUT (out), 7 +V (power)
part B pins: 1 NC, 5 NC, 8 NC

## ADA4665-2ARMZ
designator U?
Double Channel Wide Bandwidth Operational Amplifier, 1.2 MHz BW, 1 V/us SR, Industrial, 8-pin SOP (RM-8), Tube; Generic Part Number: ADA4665-2; Manufacturer: Analog Devices; PartNumber: ADA4665-2ARMZ; Amplifiers Per Package: 2; Input Bias Current: 100fA; Input Offset Voltage: 1mV; Iq/Amp: 290uA; Slew Rate: 1V/us; Small Signal Bandwidth: 1.2MHz; V Span Max: 16V; V Span Min: 5V; DatasheetVersion: Rev. 0; PackageReference: RM-8; PackageDescription: 8-Pin Mini Small Outline Package, Body 3 x 3 mm, Pitch 0.65 mm; Supplier 1: Digi-Key; Supplier Part Number 1: ADA4665-2ARMZ-ND; Supplier 2: Farnell; Supplier Part Number 2: 1702362; Supplier 3: Newark; Supplier Part Number 3: 71P7787; Mounting Technology: Surface Mount; Code_JEDEC: MO-187-AA; ComponentLink1Description: Manufacturer URL; ComponentLink1URL: http://www.analog.com/en/index.html; ComponentLink2Description: Datasheet; ComponentLink2URL: http://www.analog.com/static/imported-files/data_sheets/ADA4665-2.pdf; ComponentLink3Description: Package Specification; ComponentLink3URL: http://www.analog.com/static/imported-files/packages/PKG_PDF/MSOP%28RM%29/RM_8.pdf
footprint ADI-RM-8_N (SOP, 8-Leads, Body 3x3mm, Pitch 0.65mm, IPC Medium Density)
footprint ADI-RM-8_L (SOP, 8-Leads, Body 3x3mm, Pitch 0.65mm, IPC High Density)
footprint ADI-RM-8_M (SOP, 8-Leads, Body 3x3mm, Pitch 0.65mm, IPC Low Density)
pins on every part: 4 -V (power), 8 +V (power)
part A pins: 1 OUT A (out), 2 -IN A (in), 3 +IN A (in)
part B pins: 5 +IN B (in), 6 -IN B (in), 7 OUT B (out)

## ADA4665-2ARMZ-R7
designator U?
Double Channel Wide Bandwidth Operational Amplifier, 1.2 MHz BW, 1 V/us SR, Industrial, 8-pin SOP (RM-8), Reel; Generic Part Number: ADA4665-2; Manufacturer: Analog Devices; PartNumber: ADA4665-2ARMZ-R7; Amplifiers Per Package: 2; Input Bias Current: 100fA; Input Offset Voltage: 1mV; Iq/Amp: 290uA; Slew Rate: 1V/us; Small Signal Bandwidth: 1.2MHz; V Span Max: 16V; V Span Min: 5V; DatasheetVersion: Rev. 0; PackageReference: RM-8; PackageDescription: 8-Pin Mini Small Outline Package, Body 3 x 3 mm, Pitch 0.65 mm; Supplier 1: Digi-Key; Supplier Part Number 1: ADA4665-2ARMZ-R7TR-ND; Supplier 2: Digi-Key; Supplier Part Number 2: ADA4665-2ARMZ-R7CT-ND; Supplier 3: Digi-Key; Supplier Part Number 3: ADA4665-2ARMZ-R7DKR-ND; Supplier 4: Newark; Supplier Part Number 4: 71P7789; Mounting Technology: Surface Mount; Code_JEDEC: MO-187-AA; ComponentLink1Description: Manufacturer URL; ComponentLink1URL: http://www.analog.com/en/index.html; ComponentLink2Description: Datasheet; ComponentLink2URL: http://www.analog.com/static/imported-files/data_sheets/ADA4665-2.pdf; ComponentLink3Description: Package Specification; ComponentLink3URL: http://www.analog.com/static/imported-files/packages/PKG_PDF/MSOP%28RM%29/RM_8.pdf
footprint ADI-RM-8_N (SOP, 8-Leads, Body 3x3mm, Pitch 0.65mm, IPC Medium Density)
footprint ADI-RM-8_L (SOP, 8-Leads, Body 3x3mm, Pitch 0.65mm, IPC High Density)
footprint ADI-RM-8_M (SOP, 8-Leads, Body 3x3mm, Pitch 0.65mm, IPC Low Density)
pins on every part: 4 -V (power), 8 +V (power)
part A pins: 1 OUT A (out), 2 -IN A (in), 3 +IN A (in)
part B pins: 5 +IN B (in), 6 -IN B (in), 7 OUT B (out)

## ADA4665-2ARMZ-RL
designator U?
Double Channel Wide Bandwidth Operational Amplifier, 1.2 MHz BW, 1 V/us SR, Industrial, 8-pin SOP (RM-8), Reel; Generic Part Number: ADA4665-2; Manufacturer: Analog Devices; PartNumber: ADA4665-2ARMZ-RL; Amplifiers Per Package: 2; Input Bias Current: 100fA; Input Offset Voltage: 1mV; Iq/Amp: 290uA; Slew Rate: 1V/us; Small Signal Bandwidth: 1.2MHz; V Span Max: 16V; V Span Min: 5V; DatasheetVersion: Rev. 0; PackageReference: RM-8; PackageDescription: 8-Pin Mini Small Outline Package, Body 3 x 3 mm, Pitch 0.65 mm; Supplier 1: Digi-Key; Supplier Part Number 1: ADA4665-2ARMZ-RL-ND; Supplier 2: Newark; Supplier Part Number 2: 71P7788; Mounting Technology: Surface Mount; Code_JEDEC: MO-187-AA; ComponentLink1Description: Manufacturer URL; ComponentLink1URL: http://www.analog.com/en/index.html; ComponentLink2Description: Datasheet; ComponentLink2URL: http://www.analog.com/static/imported-files/data_sheets/ADA4665-2.pdf; ComponentLink3Description: Package Specification; ComponentLink3URL: http://www.analog.com/static/imported-files/packages/PKG_PDF/MSOP%28RM%29/RM_8.pdf
footprint ADI-RM-8_N (SOP, 8-Leads, Body 3x3mm, Pitch 0.65mm, IPC Medium Density)
footprint ADI-RM-8_L (SOP, 8-Leads, Body 3x3mm, Pitch 0.65mm, IPC High Density)
footprint ADI-RM-8_M (SOP, 8-Leads, Body 3x3mm, Pitch 0.65mm, IPC Low Density)
pins on every part: 4 -V (power), 8 +V (power)
part A pins: 1 OUT A (out), 2 -IN A (in), 3 +IN A (in)
part B pins: 5 +IN B (in), 6 -IN B (in), 7 OUT B (out)

## ADA4665-2ARZ
designator U?
Double Channel Wide Bandwidth Operational Amplifier, 1.2 MHz BW, 1 V/us SR, Industrial, 8-pin SOIC (R-8), Tube; Generic Part Number: ADA4665-2; Manufacturer: Analog Devices; PartNumber: ADA4665-2ARZ; Amplifiers Per Package: 2; Input Bias Current: 100fA; Input Offset Voltage: 1mV; Iq/Amp: 290uA; Slew Rate: 1V/us; Small Signal Bandwidth: 1.2MHz; V Span Max: 16V; V Span Min: 5V; DatasheetVersion: Rev. 0; PackageVersion: 060506-A; PackageReference: R-8; PackageDescription: 8-Pin Standard Small Outline Package, Body 3.9 x 4.9 mm, Pitch 1.27 mm; Supplier 1: Digi-Key; Supplier Part Number 1: ADA4665-2ARZ-ND; Supplier 2: Farnell; Supplier Part Number 2: 1827380; Supplier 3: Newark; Supplier Part Number 3: 71P7790; Mounting Technology: Surface Mount; Code_JEDEC: MS-012-AA; ComponentLink1Description: Manufacturer URL; ComponentLink1URL: http://www.analog.com/en/index.html; ComponentLink2Description: Datasheet; ComponentLink2URL: http://www.analog.com/static/imported-files/data_sheets/ADA4665-2.pdf; ComponentLink3Description: Package Specification; ComponentLink3URL: http://www.analog.com/static/imported-files/packages/PKG_PDF/SOIC_Narrow%20(R)/R_8.pdf
footprint ADI-R-8_N (SOIC, 8-Leads, Body 4.9x3.9mm, Pitch 1.27mm, IPC Medium Density)
footprint ADI-R-8_L (SOIC, 8-Leads, Body 4.9x3.9mm, Pitch 1.27mm, IPC High Density)
footprint ADI-R-8_M (SOIC, 8-Leads, Body 4.9x3.9mm, Pitch 1.27mm, IPC Low Density)
pins on every part: 4 -V (power), 8 +V (power)
part A pins: 1 OUT A (out), 2 -IN A (in), 3 +IN A (in)
part B pins: 5 +IN B (in), 6 -IN B (in), 7 OUT B (out)

## ADA4665-2ARZ-R7
designator U?
Double Channel Wide Bandwidth Operational Amplifier, 1.2 MHz BW, 1 V/us SR, Industrial, 8-pin SOIC (R-8), Reel; Generic Part Number: ADA4665-2; Manufacturer: Analog Devices; PartNumber: ADA4665-2ARZ-R7; Amplifiers Per Package: 2; Input Bias Current: 100fA; Input Offset Voltage: 1mV; Iq/Amp: 290uA; Slew Rate: 1V/us; Small Signal Bandwidth: 1.2MHz; V Span Max: 16V; V Span Min: 5V; DatasheetVersion: Rev. 0; PackageVersion: 060506-A; PackageReference: R-8; PackageDescription: 8-Pin Standard Small Outline Package, Body 3.9 x 4.9 mm, Pitch 1.27 mm; Supplier 1: Digi-Key; Supplier Part Number 1: ADA4665-2ARZ-R7TR-ND; Supplier 2: Digi-Key; Supplier Part Number 2: ADA4665-2ARZ-R7CT-ND; Supplier 3: Digi-Key; Supplier Part Number 3: ADA4665-2ARZ-R7DKR-ND; Supplier 4: Newark; Supplier Part Number 4: 71P7792; Mounting Technology: Surface Mount; Code_JEDEC: MS-012-AA; ComponentLink1Description: Manufacturer URL; ComponentLink1URL: http://www.analog.com/en/index.html; ComponentLink2Description: Datasheet; ComponentLink2URL: http://www.analog.com/static/imported-files/data_sheets/ADA4665-2.pdf; ComponentLink3Description: Package Specification; ComponentLink3URL: http://www.analog.com/static/imported-files/packages/PKG_PDF/SOIC_Narrow%20(R)/R_8.pdf
footprint ADI-R-8_N (SOIC, 8-Leads, Body 4.9x3.9mm, Pitch 1.27mm, IPC Medium Density)
footprint ADI-R-8_L (SOIC, 8-Leads, Body 4.9x3.9mm, Pitch 1.27mm, IPC High Density)
footprint ADI-R-8_M (SOIC, 8-Leads, Body 4.9x3.9mm, Pitch 1.27mm, IPC Low Density)
pins on every part: 4 -V (power), 8 +V (power)
part A pins: 1 OUT A (out), 2 -IN A (in), 3 +IN A (in)
part B pins: 5 +IN B (in), 6 -IN B (in), 7 OUT B (out)

## ADA4665-2ARZ-RL
designator U?
Double Channel Wide Bandwidth Operational Amplifier, 1.2 MHz BW, 1 V/us SR, Industrial, 8-pin SOIC (R-8), Reel; Generic Part Number: ADA4665-2; Manufacturer: Analog Devices; PartNumber: ADA4665-2ARZ-RL; Amplifiers Per Package: 2; Input Bias Current: 100fA; Input Offset Voltage: 1mV; Iq/Amp: 290uA; Slew Rate: 1V/us; Small Signal Bandwidth: 1.2MHz; V Span Max: 16V; V Span Min: 5V; DatasheetVersion: Rev. 0; PackageVersion: 060506-A; PackageReference: R-8; PackageDescription: 8-Pin Standard Small Outline Package, Body 3.9 x 4.9 mm, Pitch 1.27 mm; Supplier 1: Digi-Key; Supplier Part Number 1: ADA4665-2ARZ-RL-ND; Supplier 2: Newark; Supplier Part Number 2: 71P7791; Mounting Technology: Surface Mount; Code_JEDEC: MS-012-AA; ComponentLink1Description: Manufacturer URL; ComponentLink1URL: http://www.analog.com/en/index.html; ComponentLink2Description: Datasheet; ComponentLink2URL: http://www.analog.com/static/imported-files/data_sheets/ADA4665-2.pdf; ComponentLink3Description: Package Specification; ComponentLink3URL: http://www.analog.com/static/imported-files/packages/PKG_PDF/SOIC_Narrow%20(R)/R_8.pdf
footprint ADI-R-8_N (SOIC, 8-Leads, Body 4.9x3.9mm, Pitch 1.27mm, IPC Medium Density)
footprint ADI-R-8_L (SOIC, 8-Leads, Body 4.9x3.9mm, Pitch 1.27mm, IPC High Density)
footprint ADI-R-8_M (SOIC, 8-Leads, Body 4.9x3.9mm, Pitch 1.27mm, IPC Low Density)
pins on every part: 4 -V (power), 8 +V (power)
part A pins: 1 OUT A (out), 2 -IN A (in), 3 +IN A (in)
part B pins: 5 +IN B (in), 6 -IN B (in), 7 OUT B (out)

## ADA4691-2ACBZ-R7
designator U?
Double Channel Low Power Operational Amplifier, 3.6 MHz BW, 1.3 V/us SR, Industrial, 9-pin BGA (CB-9-3), Reel; Generic Part Number: ADA4691-2; Manufacturer: Analog Devices; PartNumber: ADA4691-2ACBZ-R7; Amplifiers Per Package: 2; Input Bias Current: 500fA; Input Offset Voltage: 500uV; Iq/Amp: 180uA; Small Signal Bandwidth: 3.6MHz; V Span Max: 5V; V Span Min: 2.7V; DatasheetVersion: Rev. D; PackageVersion: 091709-A; PackageReference: CB-9-3; PackageDescription: 9-Ball Wafer Level Chip Scale Package, Body 1.22 x 1.21 mm, Pitch 0.4 mm; Supplier 1: Digi-Key; Supplier Part Number 1: ADA4691-2ACBZ-R7TR-ND; Supplier 2: Digi-Key; Supplier Part Number 2: ADA4691-2ACBZ-R7CT-ND; Supplier 3: Digi-Key; Supplier Part Number 3: ADA4691-2ACBZ-R7DKR-ND; Supplier 4: Newark; Supplier Part Number 4: 51R0646; Slew Rate: 1.3V/us; Mounting Technology: Surface Mount; ComponentLink1Description: Manufacturer URL; ComponentLink1URL: http://www.analog.com/en/index.html; ComponentLink2Description: Datasheet; ComponentLink2URL: http://www.analog.com/static/imported-files/data_sheets/ADA4691-2_4691-4_4692-2_4692-4.pdf; ComponentLink3Description: Package Specification; ComponentLink3URL: http://www.analog.com/static/imported-files/packages/PKG_PDF/WLCSP(CB)/CB_9_3.pdf
footprint ADI-CB-9-3 (BGA, 9-Balls, Body 1.22x1.21mm, Pitch 0.4mm)
pins on every part: A2 +V (power), B2 SD A/B (in), C2 -V (power)
part A pins: A3 OUT A (out), B3 -IN A (in), C3 +IN A (in)
part B pins: A1 OUT B (out), B1 -IN B (in), C1 +IN B (in)

## ADA4691-2ACBZ-RL
designator U?
Double Channel Low Power Operational Amplifier, 3.6 MHz BW, 1.3 V/us SR, Industrial, 9-pin BGA (CB-9-3), Reel; Generic Part Number: ADA4691-2; Manufacturer: Analog Devices; PartNumber: ADA4691-2ACBZ-RL; Amplifiers Per Package: 2; Input Bias Current: 500fA; Input Offset Voltage: 500uV; Iq/Amp: 180uA; Small Signal Bandwidth: 3.6MHz; V Span Max: 5V; V Span Min: 2.7V; DatasheetVersion: Rev. D; PackageVersion: 091709-A; PackageReference: CB-9-3; PackageDescription: 9-Ball Wafer Level Chip Scale Package, Body 1.22 x 1.21 mm, Pitch 0.4 mm; Supplier 1: Digi-Key; Supplier Part Number 1: ADA4691-2ACBZ-RL-ND; Slew Rate: 1.3V/us; Mounting Technology: Surface Mount; ComponentLink1Description: Manufacturer URL; ComponentLink1URL: http://www.analog.com/en/index.html; ComponentLink2Description: Datasheet; ComponentLink2URL: http://www.analog.com/static/imported-files/data_sheets/ADA4691-2_4691-4_4692-2_4692-4.pdf; ComponentLink3Description: Package Specification; ComponentLink3URL: http://www.analog.com/static/imported-files/packages/PKG_PDF/WLCSP(CB)/CB_9_3.pdf
footprint ADI-CB-9-3 (BGA, 9-Balls, Body 1.22x1.21mm, Pitch 0.4mm)
pins on every part: A2 +V (power), B2 SD A/B (in), C2 -V (power)
part A pins: A3 OUT A (out), B3 -IN A (in), C3 +IN A (in)
part B pins: A1 OUT B (out), B1 -IN B (in), C1 +IN B (in)

## ADA4691-2ACPZ-R7
designator U?
Double Channel Low Power Operational Amplifier, 3.6 MHz BW, 1.3 V/us SR, Industrial, 10-pin QFN (CP-10-11), Reel; Generic Part Number: ADA4691-2; Manufacturer: Analog Devices; PartNumber: ADA4691-2ACPZ-R7; Amplifiers Per Package: 2; Input Bias Current: 500fA; Input Offset Voltage: 500uV; Iq/Amp: 180uA; Small Signal Bandwidth: 3.6MHz; V Span Max: 5V; V Span Min: 2.7V; DatasheetVersion: Rev. D; PackageVersion: 071808-B; PackageReference: CP-10-11; PackageDescription: 10-Pin Lead Frame Chip Scale Package, Body 2 x 2 mm, Pitch 0.5 mm; Supplier 1: Digi-Key; Supplier Part Number 1: ADA4691-2ACPZ-R7TR-ND; Supplier 2: Digi-Key; Supplier Part Number 2: ADA4691-2ACPZ-R7CT-ND; Supplier 3: Digi-Key; Supplier Part Number 3: ADA4691-2ACPZ-R7DKR-ND; Supplier 4: Newark; Supplier Part Number 4: 26R2406; Slew Rate: 1.3V/us; Mounting Technology: Surface Mount; ComponentLink1Description: Manufacturer URL; ComponentLink1URL: http://www.analog.com/en/index.html; ComponentLink2Description: Datasheet; ComponentLink2URL: http://www.analog.com/static/imported-files/data_sheets/ADA4691-2_4691-4_4692-2_4692-4.pdf; ComponentLink3Description: Package Specification; ComponentLink3URL: http://www.analog.com/static/imported-files/packages/PKG_PDF/LFCSP(CP)/CP_10_11.pdf
footprint ADI-CP-10-11_N (QFN, 10-Leads, Body 2x2mm, Pitch 0.5mm, IPC Medium Density)
footprint ADI-CP-10-11_L (QFN, 10-Leads, Body 2x2mm, Pitch 0.5mm, IPC High Density)
footprint ADI-CP-10-11_M (QFN, 10-Leads, Body 2x2mm, Pitch 0.5mm, IPC Low Density)
pins on every part: 3 -V (power), 9 +V (power)
part A pins: 1 -IN A (in), 2 +IN A (in), 4 SD A (in), 10 OUT A (out)
part B pins: 5 SD B (in), 6 +IN B (in), 7 -IN B (in), 8 OUT B (out)

## ADA4691-2ACPZ-RL
designator U?
Double Channel Low Power Operational Amplifier, 3.6 MHz BW, 1.3 V/us SR, Industrial, 10-pin QFN (CP-10-11), Reel; Generic Part Number: ADA4691-2; Manufacturer: Analog Devices; PartNumber: ADA4691-2ACPZ-RL; Amplifiers Per Package: 2; Input Bias Current: 500fA; Input Offset Voltage: 500uV; Iq/Amp: 180uA; Small Signal Bandwidth: 3.6MHz; V Span Max: 5V; V Span Min: 2.7V; DatasheetVersion: Rev. D; PackageVersion: 071808-B; PackageReference: CP-10-11; PackageDescription: 10-Pin Lead Frame Chip Scale Package, Body 2 x 2 mm, Pitch 0.5 mm; Supplier 1: Digi-Key; Supplier Part Number 1: ADA4691-2ACPZ-RL-ND; Slew Rate: 1.3V/us; Mounting Technology: Surface Mount; ComponentLink1Description: Manufacturer URL; ComponentLink1URL: http://www.analog.com/en/index.html; ComponentLink2Description: Datasheet; ComponentLink2URL: http://www.analog.com/static/imported-files/data_sheets/ADA4691-2_4691-4_4692-2_4692-4.pdf; ComponentLink3Description: Package Specification; ComponentLink3URL: http://www.analog.com/static/imported-files/packages/PKG_PDF/LFCSP(CP)/CP_10_11.pdf
footprint ADI-CP-10-11_N (QFN, 10-Leads, Body 2x2mm, Pitch 0.5mm, IPC Medium Density)
footprint ADI-CP-10-11_L (QFN, 10-Leads, Body 2x2mm, Pitch 0.5mm, IPC High Density)
footprint ADI-CP-10-11_M (QFN, 10-Leads, Body 2x2mm, Pitch 0.5mm, IPC Low Density)
pins on every part: 3 -V (power), 9 +V (power)
part A pins: 1 -IN A (in), 2 +IN A (in), 4 SD A (in), 10 OUT A (out)
part B pins: 5 SD B (in), 6 +IN B (in), 7 -IN B (in), 8 OUT B (out)